# EAGLE library part 25AA02E48T (library microchip)
IC EEPROM 2KBIT 10MHZ SOT23-6
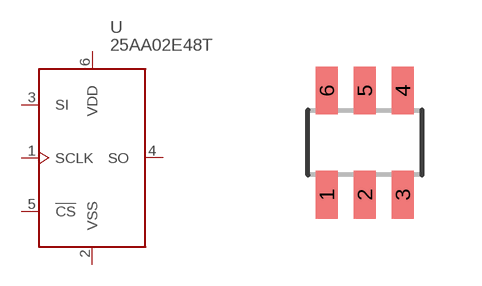
[diagram p3: symbol with the pads of SOT23-6L; footprint SOT23-6L]

Designator prefix U

## 25AA02E48T (DIGIKEY: 25AA02E48T-I/OTCT-ND; P1I: o)  [SOT23-6L]
1  SCLK
2  VSS
3  SI
4  SO
5  !CS
6  VDD

## Footprint SOT23-6L (pad centres in mm)
Small Outline Transistor
smd 0.55 x 1.2: 1 -0.95,-1.3; 2 0,-1.3; 3 0.95,-1.3; 4 0.95,1.3; 5 0,1.3; 6 -0.95,1.3